# Altium schematic symbol library ConnorsPICAdventure.SchLib: 6 symbols
Pins are listed as number, name and electrical type; pins without a type are passive.

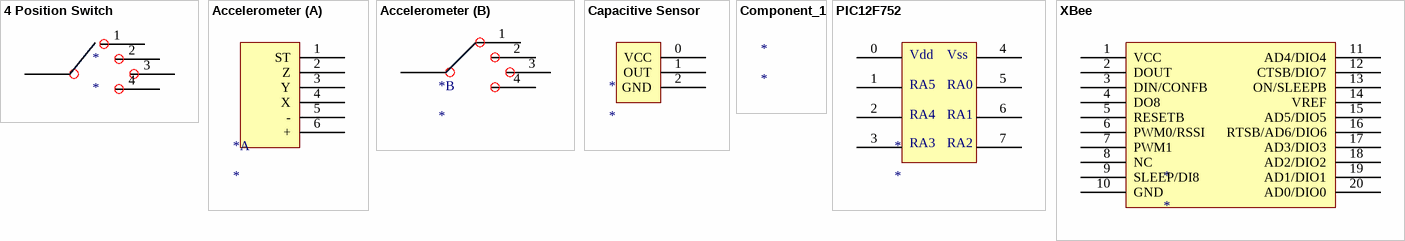
[diagram p0: symbols 4 Position Switch to XBee]

## 4 Position Switch
designator *
pins: 1, 2 9, 3 10, 4 11, 7

## Accelerometer
designator *
part A pins: 1 ST, 2 Z, 3 Y, 4 X, 5 -, 6 +
part B pins: 1, 2 9, 3 10, 4 11, 7

## Capacitive Sensor
designator *
pins: 0 VCC, 1 OUT, 2 GND

## Component_1
designator *

## PIC12F752
designator *
pins: 0, 1, 2, 3, 4, 5, 6, 7
text: Vdd; Vss; RA5; RA0; RA4; RA1; RA3; RA2

## XBee
designator *
pins: 1 VCC, 2 DOUT, 3 DIN/CONFB, 4 DO8, 5 RESETB, 6 PWM0/RSSI, 7 PWM1, 8 NC, 9 SLEEP/DI8, 10 GND, 11 AD4/DIO4, 12 CTSB/DIO7, 13 ON/SLEEPB, 14 VREF, 15 AD5/DIO5, 16 RTSB/AD6/DIO6, 17 AD3/DIO3, 18 AD2/DIO2, 19 AD1/DIO1, 20 AD0/DIO0